# EAGLE library part TPS63802DLAR (library TPS63802DLAR)
Texas Instruments High current, high efficiency single inductor buck-boost converter 10-VSON-HR -40 to 125 Source: Datasheet <http://www.ti.com/lit/ds/symlink/tps63802.pdf>
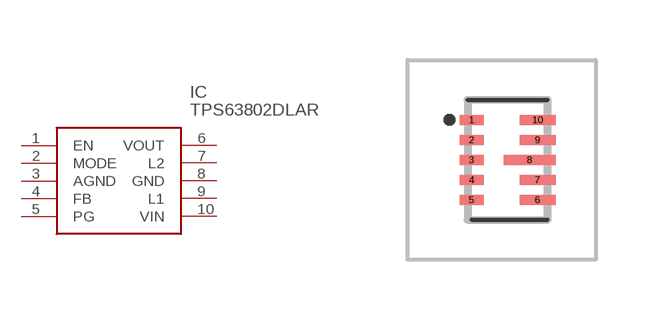
[diagram p0: symbol with the pads of TPS63802DLAR; footprint TPS63802DLAR]

Designator prefix IC

## TPS63802DLAR (Arrow_Part_Number: TPS63802DLAR; Arrow_Price-Stock: https://www.arrow.com/en/products/tps63802dlar/texas-instruments?utm_currency=USD&region=nac; Description: Texas Instruments High current, high efficiency single inductor buck-boost converter 10-VSON-HR -40 to 125; Height: 1mm; Manufacturer_Name: Texas Instruments; Manufacturer_Part_Number: TPS63802DLAR; Mouser_Part_Number: 595-TPS63802DLAR; Mouser_Price-Stock: https://www.mouser.co.uk/ProductDetail/Texas-Instruments/TPS63802DLAR?qs=9r4v7xj2Lnmr2ylyTiX9Mg%3D%3D)  [TPS63802DLAR]
1  EN
2  MODE
3  AGND
4  FB
5  PG
6  VOUT
7  L2
8  GND
9  L1
10  VIN

## Footprint TPS63802DLAR (pad centres in mm)
TPS63802DLAR-2
smd 0.6 x 0.25: 1 -0.9,1; 2 -0.9,0.5; 3 -0.9,0; 4 -0.9,-0.5; 5 -0.9,-1
smd 0.9 x 0.25: 6 0.75,-1; 7 0.75,-0.5; 9 0.75,0.5; 10 0.75,1
smd 1.3 x 0.25: 8 0.55,0